# EAGLE library part POLOLU-A4983 (library Pololu-A4983)
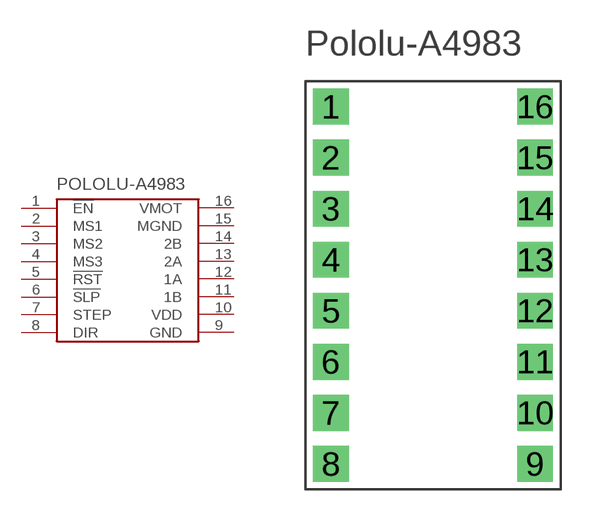
[diagram p0: symbol with the pads of POLOLU-A4983; footprint POLOLU-A4983]

Designator prefix -

## POLOLU-A4983POLOLU-A4983  [POLOLU-A4983]
1  !EN
2  MS1
3  MS2
4  MS3
5  !RST
6  !SLP
7  STEP
8  DIR
9  GND
10  VDD
11  1B
12  1A
13  2A
14  2B
15  MGND
16  VMOT

## Footprint POLOLU-A4983 (pad centres in mm)
drill 1 pad 1.778 square: 1 -5.08,8.89; 2 -5.08,6.35; 3 -5.08,3.81; 4 -5.08,1.27; 5 -5.08,-1.27; 6 -5.08,-3.81; 7 -5.08,-6.35; 8 -5.08,-8.89; 9 5.08,-8.89; 10 5.08,-6.35; 11 5.08,-3.81; 12 5.08,-1.27; 13 5.08,1.27; 14 5.08,3.81; 15 5.08,6.35; 16 5.08,8.89